# Altium schematic symbol library SCH - AMP - ST FDA801.Schlib: 1 symbol
Pins are listed as number, name and electrical type; pins without a type are passive.

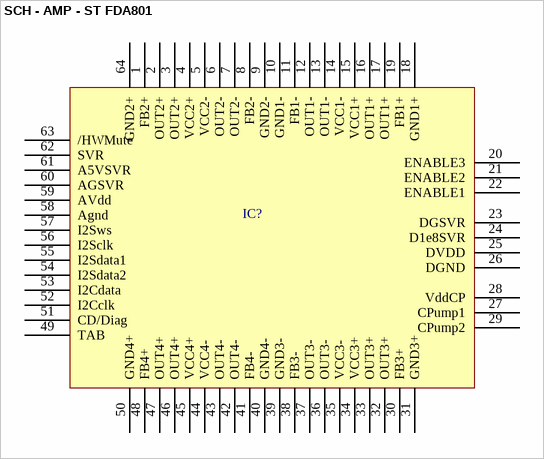
[diagram p0: symbol SCH - AMP - ST FDA801]

## SCH - AMP - ST FDA801
designator IC?
footprint LQFP64 (10x10x1.4) (ST Micro (not Standard Pin count!!))
pins: 1 FB2+, 2 OUT2+, 3 OUT2+, 4 VCC2+, 5 VCC2-, 6 OUT2-, 7 OUT2-, 8 FB2-, 9 GND2-, 10 GND1-, 11 FB1-, 12 OUT1-, 13 OUT1-, 14 VCC1-, 15 VCC1+, 16 OUT1+, 17 OUT1+, 18 GND1+, 19 FB1+, 20 ENABLE3, 21 ENABLE2, 22 ENABLE1, 23 DGSVR, 24 D1e8SVR, 25 DVDD, 26 DGND, 27 CPump1, 28 VddCP, 29 CPump2, 30 FB3+, 31 GND3+, 32 OUT3+, 33 OUT3+, 34 VCC3+, 35 VCC3-, 36 OUT3-, 37 OUT3-, 38 FB3-, 39 GND3-, 40 GND4-, 41 FB4-, 42 OUT4-, 43 OUT4-, 44 VCC4-, 45 VCC4+, 46 OUT4+, 47 OUT4+, 48 FB4+, 49 TAB, 50 GND4+, 51 CD/Diag, 52 I2Cclk, 53 I2Cdata, 54 I2Sdata2, 55 I2Sdata1, 56 I2Sclk, 57 I2Sws, 58 Agnd, 59 AVdd, 60 AGSVR, 61 A5VSVR, 62 SVR, 63 /HWMute, 64 GND2+